# Altium footprint library PCB - SWITCH - E-SWITCH TL3340.PcbLib: 1 footprints
Each footprint in its own frame and in the unit in brackets; x right, y up, seen from the top. Pads: shape width x height; smd on the part's side, far side on the other; paste and mask are expansions set on the pad; w line width, h text height; cw(c..) or ccw(c..) is an arc to the next point about the centre after c.
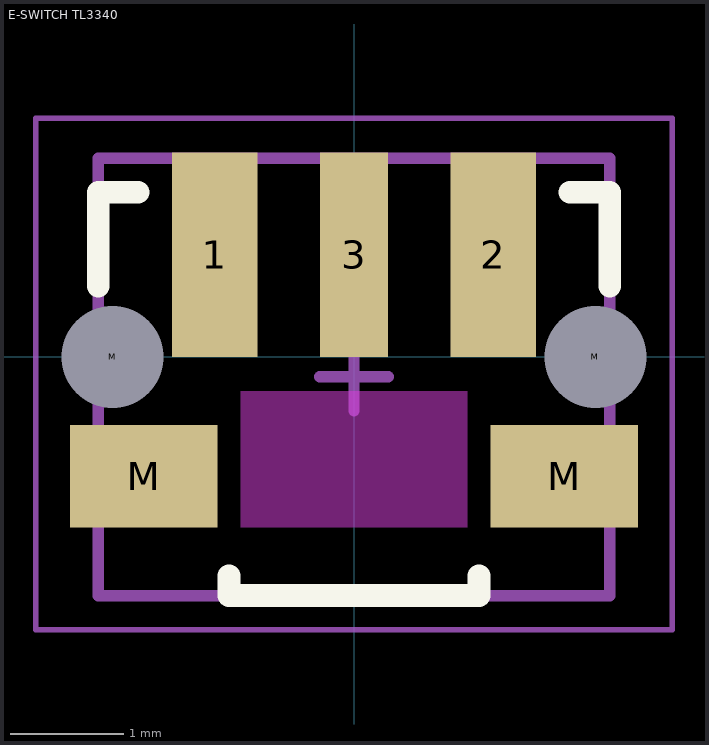
[diagram p0: the footprint, top view; thin cyan lines are the x and y axes]

## E-SWITCH TL3340 [mm] "SMT Switch, 3-leads, body 4x3.3mm, E-SWITCH TL3340AF160QG"
height 3.3
pads (7):
  rect 0.75x1.8 smd mask+0.1: 1(-1.225,0.9) 2(1.225,0.9)
  rect 0.6x1.8 smd mask+0.1: 3(0,0.9)
  round 0.1 hole 0.9 unplated mask+0.1: M(-2.125,0) M(2.125,0)
  rect 1.3x0.9 smd mask+0.1: M(-1.85,-1.05) M(1.85,-1.05)
Top Layer keep-out:
  rectangle: -1,-1.5 1,-0.3
Top Overlay:
  lines w0.2: -2.25,0.625 -2.25,1.45 -1.9,1.45 ; -1.1,-1.925 -1.1,-2.1 1.1,-2.1 1.1,-1.925 ; 1.9,1.45 2.25,1.45 2.25,0.625
Mechanical 13:
  lines w0.1: -2.25,-2.1 2.25,-2.1 2.25,1.75 -2.25,1.75 -2.25,-2.1
Mechanical 15 (Mech15):
  lines w0.05: -2.8,-2.4 2.8,-2.4 2.8,2.1 -2.8,2.1 -2.8,-0.05 -2.8,-2.4
  lines w0.1: -0.3,-0.175 0.3,-0.175 ; 0,-0.475 0,0.125
3D body "E-Switch - TL3340.step": height 3.28, standoff -0.66, extent -2.25,-2.2 2.25,1.653